# EAGLE library part MALE_HEADER (library male_header_device)
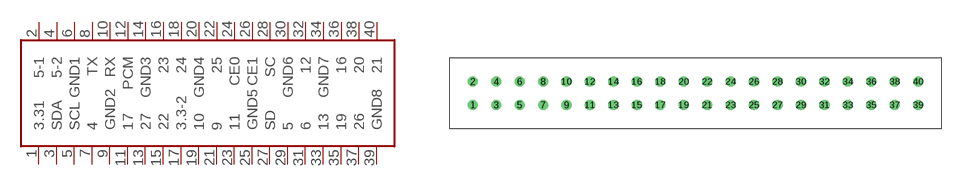
[diagram p0: symbol with the pads of MALE_HEADER_PACKAGE; footprint MALE_HEADER_PACKAGE]

Designator prefix -

## MALE_HEADER  [MALE_HEADER_PACKAGE]
1  3.31
2  5-1
3  SDA
4  5-2
5  SCL
6  GND1
7  4
8  TX
9  GND2
10  RX
11  17
12  PCM
13  27
14  GND3
15  22
16  23
17  3.3-2
18  24
19  10
20  GND4
21  9
22  25
23  11
24  CE0
25  GND5
26  CE1
27  SD
28  SC
29  5
30  GND6
31  6
32  12
33  13
34  GND7
35  19
36  16
37  26
38  20
39  GND8
40  21

## Footprint MALE_HEADER_PACKAGE (pad centres in mm)
drill 0.6: 1 -35.56,12.7; 2 -35.56,15.24; 3 -33.02,12.7; 4 -33.02,15.24; 5 -30.48,12.7; 6 -30.48,15.24; 7 -27.94,12.7; 8 -27.94,15.24; 9 -25.4,12.7; 10 -25.4,15.24; 11 -22.86,12.7; 12 -22.86,15.24; 13 -20.32,12.7; 14 -20.32,15.24; 15 -17.78,12.7; 16 -17.78,15.24; 17 -15.24,12.7; 18 -15.24,15.24; 19 -12.7,12.7; 20 -12.7,15.24; 21 -10.16,12.7; 22 -10.16,15.24; 23 -7.62,12.7; 24 -7.62,15.24; 25 -5.08,12.7; 26 -5.08,15.24; 27 -2.54,12.7; 28 -2.54,15.24; 29 0,12.7; 30 0,15.24; 31 2.54,12.7; 32 2.54,15.24; 33 5.08,12.7; 34 5.08,15.24; 35 7.62,12.7; 36 7.62,15.24; 37 10.16,12.7; 38 10.16,15.24; 39 12.7,12.7; 40 12.7,15.24